# Altium schematic symbol library pedals-inductors.SCHLIB: 2 symbols
Pins are listed as number, name and electrical type; pins without a type are passive.

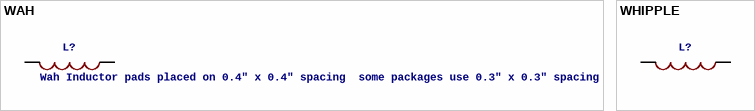
[diagram p0: symbols WAH to WHIPPLE]

## WAH
designator L?, comment Wah Inductor pads placed on 0.4" x 0.4" spacing  some packages use 0.3" x 0.3" spacing  use template to fill in additional pads and traces as required
footprint WAH
pins: 1, 2

## WHIPPLE
designator L?
footprint WHIPPLE
pins: 3 4 5 6 7 8 9 10 11 12 13 A 1, 14 15 16 17 18 19 20 21 22 23 24 B 2